# Altium schematic symbol library 2010_R.SchLib: 1 symbol
Pins are listed as number, name and electrical type; pins without a type are passive.

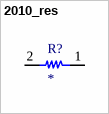
[diagram p0: symbol 2010_res]

## 2010_res
designator R?
Value: *
footprint 2010_FP
pins: 1, 2